# Altium footprint library 533091070.PcbLib: 1 footprints
Each footprint in its own frame and in the unit in brackets; x right, y up, seen from the top. Pads: shape width x height; smd on the part's side, far side on the other; paste and mask are expansions set on the pad; w line width, h text height; cw(c..) or ccw(c..) is an arc to the next point about the centre after c.
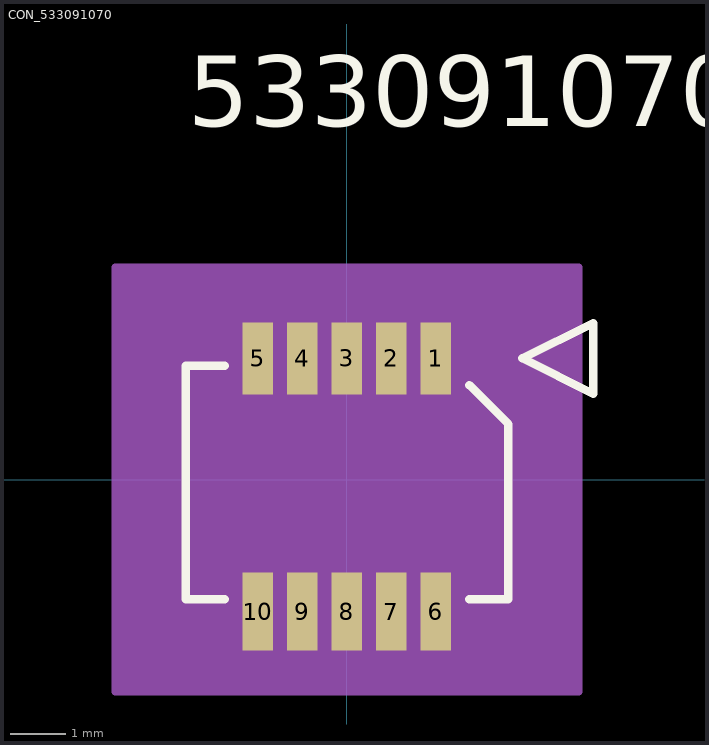
[diagram p0: the footprint, top view; thin cyan lines are the x and y axes]

## CON_533091070 [mm]
pads (10):
  rect 0.55x1.3 smd paste+0 mask+0.025: 1(1.6,2.18) 2(0.8,2.18) 3(0,2.18) 4(-0.8,2.18) 5(-1.6,2.18)
  rect 0.55x1.4 smd paste+0 mask+0.025: 6(1.6,-2.37) 7(0.8,-2.37) 8(0,-2.37) 9(-0.8,-2.37) 10(-1.6,-2.37)
Top Overlay:
  lines w0.152: -2.901,2.05 -2.901,-2.15 -2.195,-2.15 ; -2.9,2.05 -2.195,2.05 ; 2.195,-2.15 2.901,-2.15 2.901,0.998 2.2,1.699 ; 3.154,2.18 4.424,2.815 4.424,1.545 3.154,2.18
  text "533091070" at -2.857,6.35 h1.27
Mechanical 13:
  lines w0.127: -2.901,2.05 -2.901,-2.15 -1.876,-2.15 -1.876,-2.55 1.876,-2.55 1.876,-2.15 2.901,-2.15 2.901,0.998 2.2,1.699 1.875,1.699 1.875,2.05 ; -2.9,2.05 -1.875,2.05 -1.875,2.55 1.875,2.55 1.875,2.05 ; 1.875,2.05 1.875,2.05 ; 3.154,2.18 4.424,2.815 4.424,1.545 3.154,2.18
  text "533091070" at -2.857,6.35 h1.27
Mechanical 15:
  region: 4.17,3.82 -4.17,3.82 -4.17,-3.82 4.17,-3.82
  lines w0.127: -2.9,-3.57 2.9,-3.57 ; -4.17,-3.82 -4.17,3.82 4.17,3.82 4.17,-3.82 -4.17,-3.82
  text "PCB EDGE" at -4.424,-4.833 h0.76